# EAGLE library part RF_ENGINE-RF100 (library PikiTech)
Synapse RF Engine wireless module ( RF-100)
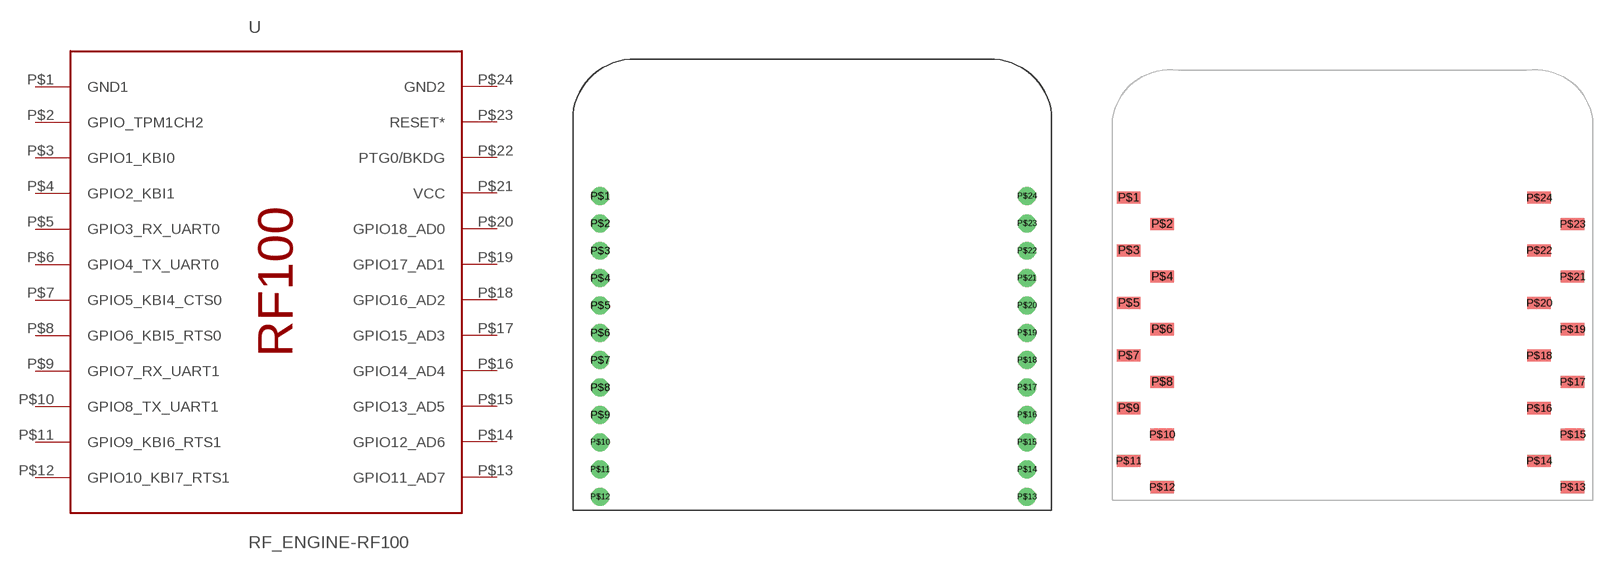
[diagram p2: symbol with the pads of RF_ENGINE; footprints RF_ENGINE, RF_ENGINE_SMD]

Designator prefix -

## RF_ENGINE-RF100PTH  [RF_ENGINE]
P$1  GND1
P$2  GPIO_TPM1CH2
P$3  GPIO1_KBI0
P$4  GPIO2_KBI1
P$5  GPIO3_RX_UART0
P$6  GPIO4_TX_UART0
P$7  GPIO5_KBI4_CTS0
P$8  GPIO6_KBI5_RTS0
P$9  GPIO7_RX_UART1
P$10  GPIO8_TX_UART1
P$11  GPIO9_KBI6_RTS1
P$12  GPIO10_KBI7_RTS1
P$13  GPIO11_AD7
P$14  GPIO12_AD6
P$15  GPIO13_AD5
P$16  GPIO14_AD4
P$17  GPIO15_AD3
P$18  GPIO16_AD2
P$19  GPIO17_AD1
P$20  GPIO18_AD0
P$21  VCC
P$22  PTG0/BKDG
P$23  RESET*
P$24  GND2

## RF_ENGINE-RF100SMD  [RF_ENGINE_SMD]
Pads as for RF_ENGINE

## Footprint RF_ENGINE (pad centres in mm)
Synapse RF Engine wireless module
drill 0.8: P$1 0,22; P$2 0,20; P$3 0,18; P$4 0,16; P$5 0,14; P$6 0,12; P$7 0,10; P$8 0,8; P$9 0,6; P$10 0,4; P$11 0,2; P$12 0,0; P$13 31.2,0; P$14 31.2,2; P$15 31.2,4; P$16 31.2,6; P$17 31.2,8; P$18 31.2,10; P$19 31.2,12; P$20 31.2,14; P$21 31.2,16; P$22 31.2,18; P$23 31.2,20; P$24 31.2,22

## Footprint RF_ENGINE_SMD (pad centres in mm)
smd 1.778 x 0.914: P$1 -1.27,22; P$2 1.27,20; P$3 -1.27,18; P$4 1.27,16; P$5 -1.27,14; P$6 1.27,12; P$7 -1.27,10; P$8 1.27,8; P$9 -1.27,6; P$10 1.27,4; P$11 -1.27,2; P$12 1.27,0; P$13 32.47,0; P$14 29.93,2; P$15 32.47,4; P$16 29.93,6; P$17 32.47,8; P$18 29.93,10; P$19 32.47,12; P$20 29.93,14; P$21 32.47,16; P$22 29.93,18; P$23 32.47,20; P$24 29.93,22